# Altium footprint library 接口.PCBLIB: 266 footprints (part 15 of 17)
Each footprint in its own frame and in the unit in brackets; x right, y up, seen from the top. Pads: shape width x height; smd on the part's side, far side on the other; paste and mask are expansions set on the pad; w line width, h text height; cw(c..) or ccw(c..) is an arc to the next point about the centre after c.
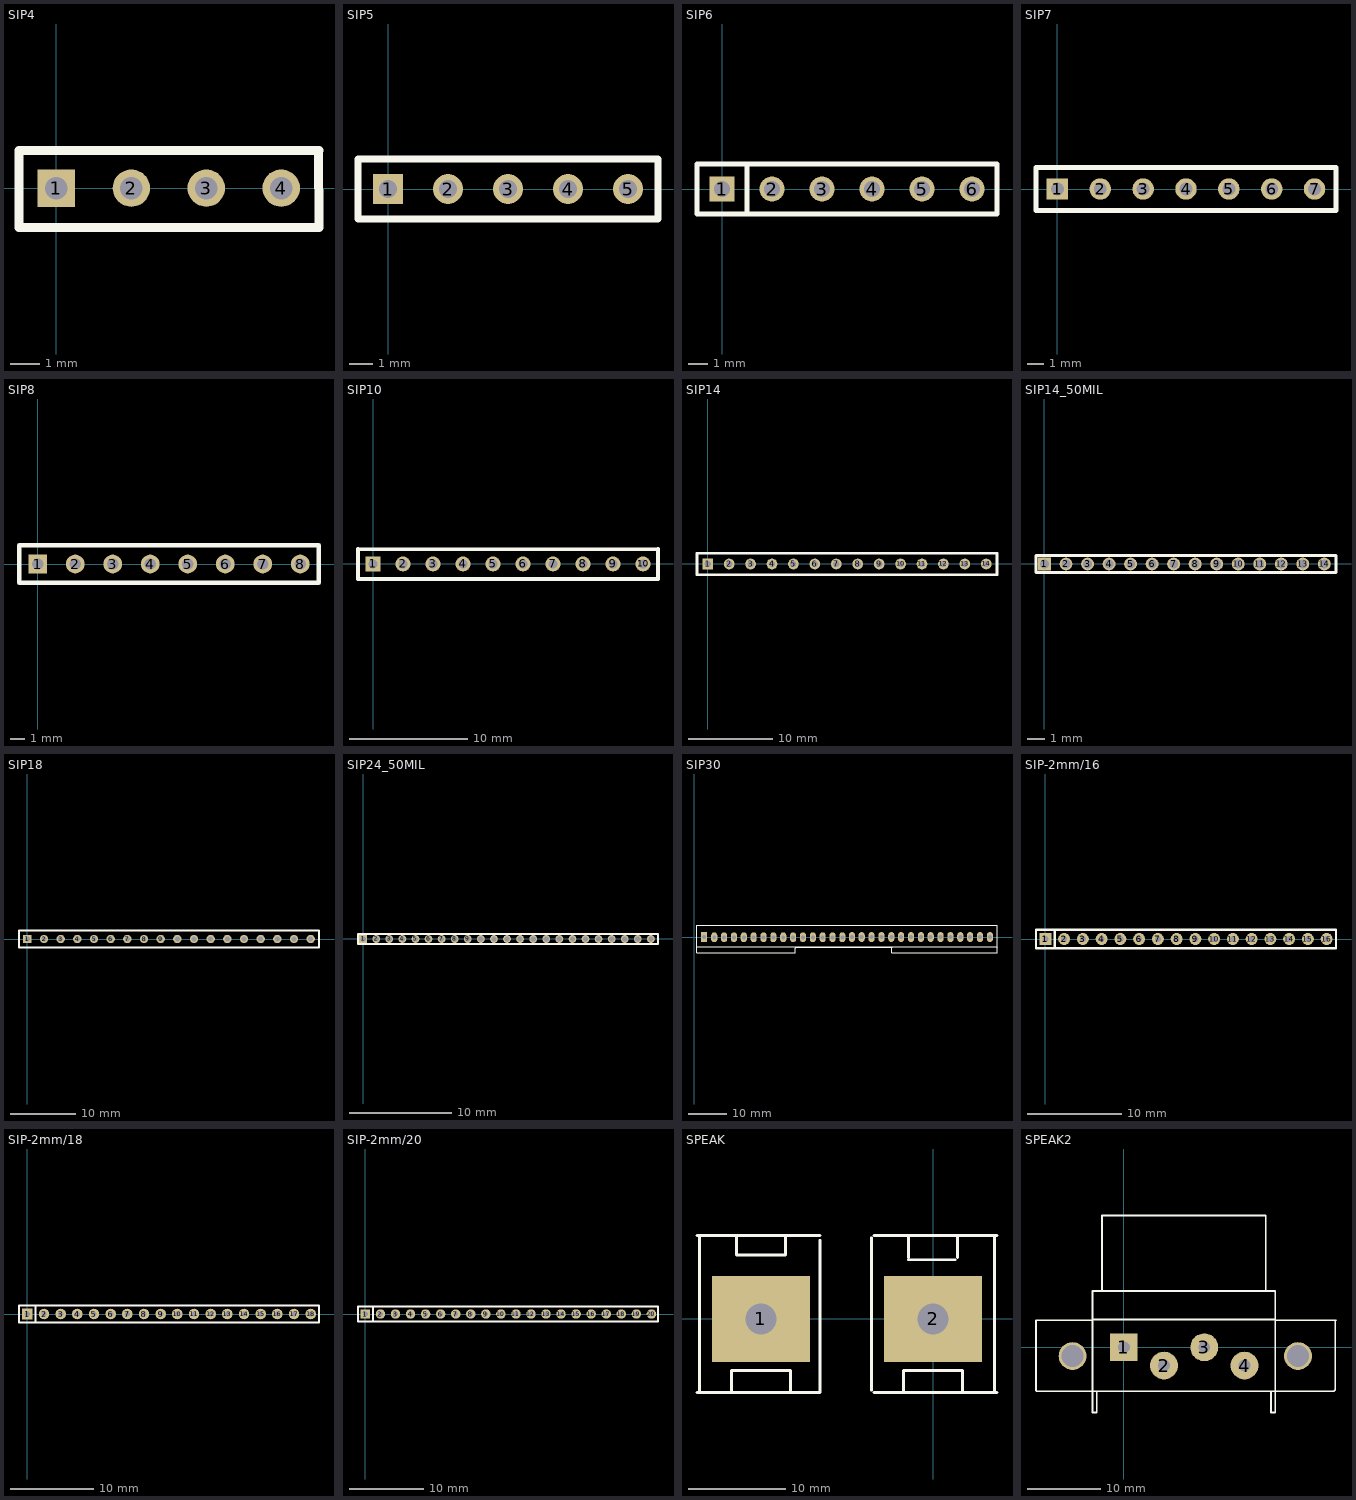
[diagram p14: the footprints below, top view; thin cyan lines are the x and y axes]

## SIP4 [mil]
pads (4):
  rect 50x50 hole 30: 1(0,0)
  round 50 hole 30: 2(100,0) 3(200,0) 4(300,0)
TopOverlay:
  lines w12: -50,-52.36 350.39,-52.36 350,50 ; -50,-50 -50,50 350.39,50

## SIP5 [mil]
pads (5):
  rect 50x50 hole 30: 1(0,0)
  round 50 hole 30: 2(100,0) 3(200,0) 4(300,0) 5(400,0)
TopOverlay:
  lines w12: -50,-50 450,-50 450,50 -50,50 -50,-50

## SIP6 [mil]
pads (6):
  rect 50x50 hole 32: 1(0,0)
  round 50 hole 32: 2(100,0) 3(200,0) 4(300,0) 5(400,0) 6(500,0)
TopOverlay:
  lines w10: 50,-50 50,50 ; -50,-50 -50,50 550,50 550,-50 -50,-50

## SIP7 [mil]
pads (7):
  rect 50x50 hole 30: 1(0,0)
  round 50 hole 30: 2(100,0) 3(200,0) 4(300,0) 5(400,0) 6(500,0) 7(600,0)
TopOverlay:
  lines w12: -50,-50 650,-50 650,50 -50,50 -50,-50

## SIP8 [mil]
pads (8):
  rect 50x50 hole 30: 1(0,0)
  round 50 hole 30: 2(100,0) 3(200,0) 4(300,0) 5(400,0) 6(500,0) 7(600,0) 8(700,0)
TopOverlay:
  lines w12: -50,-50 750,-50 750,50 -50,50 -50,-50

## SIP10 [mil]
pads (10):
  rect 50x50 hole 30: 1(0,0)
  round 50 hole 30: 2(100,0) 3(200,0) 4(300,0) 5(400,0) 6(500,0) 7(600,0) 8(700,0) 9(800,0) 10(900,0)
TopOverlay:
  lines w12: 949.8,-50.2 -50,-50 -50,50 949.8,49.21 ; 950,-50 950,50

## SIP14 [mil]
pads (14):
  rect 50x50 hole 30: 1(0,0)
  round 50 hole 30: 2(100,0) 3(200,0) 4(300,0) 5(400,0) 6(500,0) 7(600,0) 8(700,0) 9(800,0) 10(900,0) 11(1000,0) 12(1100,0) 13(1200,0) 14(1300,0)
TopOverlay:
  lines w12: 850,-50 1350,-50 1350,50 850,50 ; 949.8,-50.2 -50,-50 -50,50 949.8,49.21

## SIP14_50MIL [mil]
pads (14):
  rect 30x30 hole 20: 1(0,0)
  round 30 hole 20: 2(50,0) 3(100,0) 4(150,0) 5(200,0) 6(250,0) 7(300,0) 8(350,0) 9(400,0) 10(450,0) 11(500,0) 12(550,0) 13(600,0) 14(650,0)
TopOverlay:
  lines w8: -19.68,-19.69 -19.68,19.68 677.17,19.68 677.17,-19.69 -19.68,-19.69

## SIP18 [mil]
pads (18):
  rect 50x50 hole 30: 1(0,0)
  round 50 hole 30: 2(100,0) 3(200,0) 4(300,0) 5(400,0) 6(500,0) 7(600,0) 8(700,0) 9(800,0) 10(900,0) 11(1000,0) 12(1100,0) 13(1200,0) 14(1300,0) 15(1400,0) 16(1500,0) 17(1600,0) 18(1700,0)
TopOverlay:
  lines w12: -50,-50 1750,-50 1750,50 -50,50 -50,-50

## SIP24_50MIL [mil]
pads (23):
  rect 30x30 hole 20: 1(0,0)
  round 30 hole 20: 2(50,0) 3(100,0) 4(150,0) 5(200,0) 6(250,0) 7(300,0) 8(350,0) 9(400,0) 10(450,0) 11(500,0) 12(550,0) 13(600,0) 14(650,0) 15(700,0) 16(750,0) 17(800,0) 18(850,0) 19(900,0) 20(950,0) 21(1000,0) 22(1050,0) 23(1100,0)
TopOverlay:
  lines w8: -19.68,-19.69 -19.68,19.68 1127.17,19.68 1127.17,-19.69 -19.68,-19.69

## SIP30 [mil]
pads (30):
  rect 62x100 hole 40: 1(98.42,0)
  oval 62x100 hole 40: 2(202.36,-2.36) 3(302.36,-2.36) 4(402.36,-2.36) 5(502.36,-2.36) 6(602.36,-2.36) 7(702.36,-2.36) 8(802.36,-2.36) 9(902.36,-2.36) 10(1002.36,-2.36) 11(1102.36,-2.36) 12(1202.36,-2.36) 13(1302.36,-2.36) 14(1402.36,-2.36) 15(1502.36,-2.36) 16(1598.42,0) 17(1698.42,0) 18(1798.42,0) 19(1898.42,0) 20(1998.42,0) 21(2098.42,0) 22(2198.42,0) 23(2298.42,0) 24(2398.42,0) 25(2498.42,0) 26(2598.42,0) 27(2698.42,0) 28(2798.42,0) 29(2898.42,0) 30(2998.42,0)
TopOverlay:
  lines w10: 27.56,-98.42 3066.92,-98.42 3070.86,-102.36 ; 27.56,-161.42 27.56,0 27.56,122.05 3070.86,122.05 3070.86,-161.42 2003.93,-161.42 2003.93,-106.3 2000,-102.36 1035.43,-102.36 1023.62,-114.17 1023.62,-161.42 27.56,-161.42

## SIP-2mm/16 [mm]
pads (16):
  rect 1.27x1.27 hole 0.635: 1(0,0)
  round 1.27 hole 0.635: 2(2,0) 3(4,0) 4(6,0) 5(8,0) 6(10,0) 7(12,0) 8(14,0) 9(16,0) 10(18,0) 11(20,0) 12(22,0) 13(24,0) 14(26,0) 15(28,0) 16(30,0)
TopOverlay:
  lines w0.254: 1,-1 1,1 ; -1,-1 31,-1 31,1 -1,1 -1,-1

## SIP-2mm/18 [mm]
pads (18):
  rect 1.27x1.27 hole 0.635: 1(0,0)
  round 1.27 hole 0.635: 2(2,0) 3(4,0) 4(6,0) 5(8,0) 6(10,0) 7(12,0) 8(14,0) 9(16,0) 10(18,0) 11(20,0) 12(22,0) 13(24,0) 14(26,0) 15(28,0) 16(30,0) 17(32,0) 18(34,0)
TopOverlay:
  lines w0.254: 1,-1 1,1 ; -1,-1 35,-1 35,1 -1,1 -1,-1

## SIP-2mm/20 [mil]
pads (20):
  rect 50x50 hole 25: 1(0,0)
  round 50 hole 25: 2(80,0) 3(160,0) 4(240,0) 5(320,0) 6(400,0) 7(480,0) 8(560,0) 9(640,0) 10(720,0) 11(800,0) 12(880,0) 13(960,0) 14(1040,0) 15(1120,0) 16(1200,0) 17(1280,0) 18(1360,0) 19(1440,0) 20(1520,0)
TopOverlay:
  lines w10: 39.37,-39.37 39.37,39.37 ; -39.37,-39.37 -39.37,39.37 1555.12,39.37 1555.12,-39.37 -39.37,-39.37

## SPEAK [mil]
pads (2):
  rect 400x350 hole 125: 1(-700,0) 2(0,0)
TopOverlay:
  lines w10: -100,240 90,240
  lines w12: -960,-300 -460,-300 -460,320 ; -960,340 -460,340 ; -950,-290 -950,330 ; -820,-290 -820,-210 -580,-210 -580,-290 ; -800,340 -800,260 -600,260 -600,340 ; -250,-290 -250,330 ; -240,-300 260,-300 ; -240,340 260,340 ; -120,-290 -120,-210 120,-210 120,-290 ; -100,250 -100,330 ; 100,250 100,330 ; 250,-290 250,330

## SPEAK2 [mm]
pads (6):
  rect 3.81x3.81 hole 1.626: 1(0,0)
  round 3.81 hole 1.626: 2(5.5,-2.5) 3(11,0) 4(16.5,-2.5)
  round 3.81 hole 3: ""(-7,-1.2) ""(23.8,-1.2)
TopOverlay:
  lines w0.254: -4.3,3.7 -12,3.7 -12,-5.9 -11.9,-6 -4.3,-6 20.1,-6 20.1,-8.9 20.6,-8.9 ; -4.3,3.8 20.7,3.8 ; -3.7,-6 -3.7,-8.9 -4.3,-8.9 -4.3,7.7 20.7,7.7 ; -3,7.7 -3,18 19.4,18 19.4,7.8 19.3,7.7 20.7,7.7 ; 20,-6 20.7,-6 28.7,-6 28.9,-5.8 28.9,3.6 29,3.7 28.7,3.7 20.7,3.7 ; 20.7,-8.9 20.7,7.7